# Altium schematic symbol library robby.SchLib: 20 symbols
Pins are listed as number, name and electrical type; pins without a type are passive.

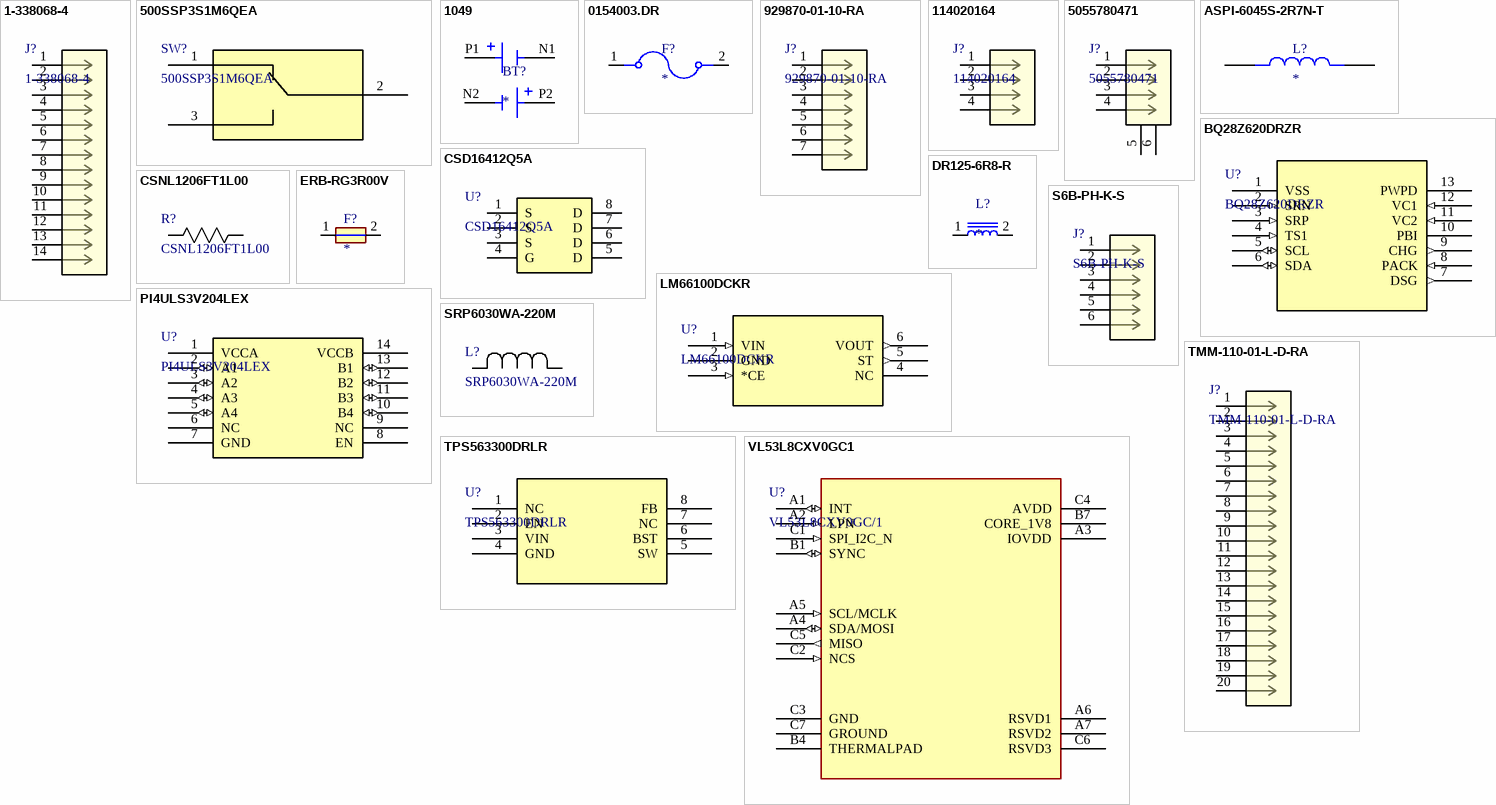
[diagram p0: symbols 1-338068-4 to VL53L8CXV0GC1]

## 1-338068-4
designator J?
MICRO-MATCH FTE,14P; Manufacturer_Name: TE Connectivity; Copyright: Copyright (C) 2025 Ultra Librarian. All rights reserved.; Manufacturer_Part_Number: 1-338068-4; Datasheet: https://www.te.com/commerce/DocumentDelivery/DDEController?Action=srchrtrv&DocNm=4-1773457-1_050_Micro_MaTch&DocType=Data+Sheet&DocLang=English&PartCntxt=1-338068-4&DocFormat=pdf; RefDes: RefDes; Type: Type; Supplier 1: DigiKey; Supplier Part Number 1: A99502CT-ND; Supplier 2: DigiKey; Supplier Part Number 2: A99502TR-ND; Supplier 3: Mouser; Supplier Part Number 3: 571-1-338068-4
footprint CONN_1-338068-4_TYC
pins: 1, 2, 3, 4, 5, 6, 7, 8, 9, 10, 11, 12, 13, 14

## 500SSP3S1M6QEA
designator SW?
No Description Available; Manufacturer_Name: E-Switch; Copyright: Copyright (C) 2025 Ultra Librarian. All rights reserved.; Manufacturer_Part_Number: 500SSP3S1M6QEA; RefDes: RefDes; Type: Type; Supplier 1: DigiKey; Supplier Part Number 1: 500SSP3S1M6QEA-ND; Supplier 2: Mouser; Supplier Part Number 2: 612-500SSP3S1M6QEA
footprint SW3_500SSP3S1M6QEA_EWI
pins: 1, 2, 3

## 1049
designator BT?
THM Holder for Dual 18650 Batteries; MF: Keystone Electronics; MP: 1049; SnapEDA_Link: https://www.snapeda.com/parts/1049/Keystone/view-part/?ref=snap; Package: None; Value: *; Check_prices: https://www.snapeda.com/parts/1049/Keystone/view-part/?ref=eda; Supplier 1: DigiKey; Supplier Part Number 1: 36-1049-ND; Supplier 2: Mouser; Supplier Part Number 2: 534-1049
footprint BAT1049
pins: N1 NEG1, N2 NEG2, P1 POS1, P2 POS2

## 0154003.DR
designator F?
Nano2 SMD FF submin fuse w/holder, 3A | Littelfuse 0154003.DR; MF: Littelfuse Inc.; SnapEDA_Link: https://www.snapeda.com/parts/0154003.DR/Littelfuse/view-part/?ref=snap; Package: SMD-2 Littelfuse; Value: *; MP: 0154003.DR; Check_prices: https://www.snapeda.com/parts/0154003.DR/Littelfuse/view-part/?ref=eda; Supplier 1: DigiKey; Supplier Part Number 1: F1226CT-ND; Supplier 2: DigiKey; Supplier Part Number 2: F1226DKR-ND; Supplier 3: Mouser; Supplier Part Number 3: 576-0154003.DR
footprint FUSE_0154003.DR
pins: 1, 2

## 929870-01-10-RA
designator J?
No Description Available; Manufacturer_Name: 3M; Copyright: Copyright (C) 2025 Ultra Librarian. All rights reserved.; Manufacturer_Part_Number: 929870-01-10-RA; RefDes: RefDes; Type: Type; Supplier 1: DigiKey; Supplier Part Number 1: 3M157422-ND; Supplier 2: Mouser; Supplier Part Number 2: 517-929870-01-10-RA
footprint CONN_929870-01-07-RA_3MM
pins: 1, 2, 3, 4, 5, 6, 7

## 114020164
designator J?
No Description Available; Manufacturer_Name: BeagleBoard; Copyright: Copyright (C) 2025 Ultra Librarian. All rights reserved.; Manufacturer_Part_Number: 114020164; RefDes: RefDes; Type: Type; Supplier 1: DigiKey; Supplier Part Number 1: 1597-114020164-ND; Supplier 2: Mouser; Supplier Part Number 2: 713-114020164
footprint CONN4_20164_SEE
pins: 1, 2, 3, 4

## 5055780471
designator J?
2.00mm Pitch, Micro-Lock Plus PCB Header, Single Row, Right-Angle, Surface Mount, Matte Tin Plating, Positive Lock, 4 Circuits, Low-Halogen, Black; Manufacturer_Name: Molex Connector Corporation; Copyright: Copyright (C) 2025 Ultra Librarian. All rights reserved.; Manufacturer_Part_Number: 5055780471; Datasheet: https://www.molex.com/en-us/products/part-detail-pdf/5055780471?display=pdf; RefDes: RefDes; Type: Type; Supplier 1: DigiKey; Supplier Part Number 1: WM17949CT-ND; Supplier 2: DigiKey; Supplier Part Number 2: WM17949DKR-ND; Supplier 3: Mouser; Supplier Part Number 3: 538-505578-0471
footprint CONN_505578_04_MOL
pins: 1, 2, 3, 4, 5, 6

## ASPI-6045S-2R7N-T
designator L?
MP: ASPI-6045S-2R7N-T; Package: None; Price: None; Value: *; Availability: Unavailable; Supplier 1: DigiKey; Supplier Part Number 1: ASPI-6045S-2R7N-TCT-ND; Supplier 2: DigiKey; Supplier Part Number 2: ASPI-6045S-2R7N-TDKR-ND; Supplier 3: DigiKey; Supplier Part Number 3: ASPI-6045S-2R7N-TTR-ND; Supplier 4: Mouser; Supplier Part Number 4: 815-ASPI-6045S-2R7NT
footprint IND_ASPI-6045S-2R7N-T
pins: 1, 2

## BQ28Z620DRZR
designator U?
Battery fuel gauge with integrated protector for 1-series to 2 series packs with 1.2-V I/O 12-SON -40 to 85; Manufacturer_Name: Texas Instruments; Type: Power Management; Copyright: Copyright (C) 2025 Ultra Librarian. All rights reserved.; Manufacturer_Part_Number: BQ28Z620DRZR; RefDes: RefDes; Supplier 1: DigiKey; Supplier Part Number 1: 296-BQ28Z620DRZRCT-ND; Supplier 2: DigiKey; Supplier Part Number 2: 296-BQ28Z620DRZRDKR-ND; Supplier 3: Mouser; Supplier Part Number 3: 595-BQ28Z620DRZR
footprint VSON12_DRZ_TEX
pins: 1 VSS (power), 2 SRN (in), 3 SRP (in), 4 TS1 (in), 5 SCL (io), 6 SDA (io), 7 DSG (out), 8 PACK (in), 9 CHG (out), 10 PBI (power), 11 VC2 (in), 12 VC1 (in), 13 PWPD (power)

## CSD16412Q5A
designator U?
25-V, N channel NexFETâ„¢ power MOSFET, single SON 5 mm x 6 mm, 16 mOhm 8-VSONP -55 to 150; Manufacturer_Name: Texas Instruments; Copyright: Copyright (C) 2025 Ultra Librarian. All rights reserved.; Manufacturer_Part_Number: CSD16412Q5A; Datasheet: https://www.ti.com/lit/gpn/csd16412q5a; RefDes: RefDes; Type: Type; Supplier 1: DigiKey; Supplier Part Number 1: 296-24256-1-ND; Supplier 2: DigiKey; Supplier Part Number 2: 296-24256-6-ND; Supplier 3: Mouser; Supplier Part Number 3: 595-CSD16412Q5A
footprint DQJ8
pins: 1 S, 2 S, 3 S, 4 G, 5 D, 6 D, 7 D, 8 D

## CSNL1206FT1L00
designator R?
Description; Manufacturer_Name: Stackpole International; Copyright: Copyright (C) 2025 Ultra Librarian. All rights reserved.; Manufacturer_Part_Number: CSNL1206FT1L00; Supplier 1: DigiKey; Supplier Part Number 1: CSNL1206FT1L00CT-ND; Supplier 2: DigiKey; Supplier Part Number 2: CSNL1206FT1L00DKR-ND; Supplier 3: DigiKey; Supplier Part Number 3: CSNL1206FT1L00TR-ND; Supplier 4: Mouser; Supplier Part Number 4: 708-CSNL1206FT1L00
footprint STA_CSNL1206_STP
pins: 1, 2

## DR125-6R8-R
designator L?
Inductor Power Shielded Drum Core 3.084u(OCL)H/3.3uH 20% 100KHz Ferrite 9.26A 6.3mOhm DCR T/R; MP: DR125-6R8-R; Package: None; Price: None; Value: *; Availability: Unavailable; Supplier 1: DigiKey; Supplier Part Number 1: 513-1530-1-ND; Supplier 2: DigiKey; Supplier Part Number 2: 513-1530-6-ND; Supplier 3: DigiKey; Supplier Part Number 3: 513-1530-2-ND; Supplier 4: Mouser; Supplier Part Number 4: 704-DR125-6R8-R
footprint INDM1250X1250X600
pins: 1, 2

## ERB-RG3R00V
designator F?
Micro Chip Fuse, Size [LÃ—W] (EIA) (mm): 3.2Ã—1.6 (EIA:1206), Rated Current (A): 3, Internal R [at 25â„ƒ max.] (mâ„¦): 45, Rated Voltage (Open Circuit Voltage) [DC] (V): 32, Interrupting Rating (A): 50, Category Temp. Range (Â°C): -40 to +125; MF: Panasonic; MP: ERB-RG3R00V; Package: 1206 Panasonic Electronic; Price: None; Value: *; Availability: In Stock; Purchase-URL: https://pricing.snapeda.com/search?q=ERB-RG3R00V&ref=eda; Supplier 1: DigiKey; Supplier Part Number 1: P16741CT-ND; Supplier 2: DigiKey; Supplier Part Number 2: P16741DKR-ND; Supplier 3: DigiKey; Supplier Part Number 3: P16741TR-ND; Supplier 4: Mouser; Supplier Part Number 4: 667-ERB-RG3R00V
footprint FUSC3216X75N
pins: 1, 2

## LM66100DCKR
designator U?
1.5-V to 5.5-V, 1.5-A, 0.5-ÂµA IQ ideal diode with integrated FET 6-SC70 -40 to 125; Manufacturer_Name: Texas Instruments; Copyright: Copyright (C) 2025 Ultra Librarian. All rights reserved.; Manufacturer_Part_Number: LM66100DCKR; RefDes: RefDes; Type: Type; Supplier 1: DigiKey; Supplier Part Number 1: 296-53541-1-ND; Supplier 2: DigiKey; Supplier Part Number 2: 296-53541-6-ND; Supplier 3: DigiKey; Supplier Part Number 3: 296-53541-2-ND; Supplier 4: Mouser; Supplier Part Number 4: 595-LM66100DCKR
footprint DCK6_TEX
pins: 1 VIN (in), 2 GND (power), 3 *CE (in), 4 NC, 5 ST (out), 6 VOUT (out)

## PI4ULS3V204LEX
designator U?
Description; Manufacturer_Name: Diodes Inc; Copyright: Copyright (C) 2025 Ultra Librarian. All rights reserved.; Manufacturer_Part_Number: PI4ULS3V204LEX; RefDes: RefDes; Type: Type; Supplier 1: DigiKey; Supplier Part Number 1: 31-PI4ULS3V204LEXCT-ND; Supplier 2: DigiKey; Supplier Part Number 2: 31-PI4ULS3V204LEXDKR-ND; Supplier 3: DigiKey; Supplier Part Number 3: 31-PI4ULS3V204LEXTR-ND; Supplier 4: Mouser; Supplier Part Number 4: 729-PI4ULS3V204LEX
footprint SOIC_3V204LEX_DIO
pins: 1 VCCA (power), 2 A1 (io), 3 A2 (io), 4 A3 (io), 5 A4 (io), 6 NC, 7 GND (power), 8 EN, 9 NC, 10 B4 (io), 11 B3 (io), 12 B2 (io), 13 B1 (io), 14 VCCB (power)

## S6B-PH-K-S
designator J?
Description; Manufacturer_Name: JST; Copyright: Copyright (C) 2025 Ultra Librarian. All rights reserved.; Manufacturer_Part_Number: S6B-PH-K-S; RefDes: RefDes; Type: Type; Supplier 1: Mouser; Supplier Part Number 1: 306-S6B-PH-K-SLFSN; Supplier 2: DigiKey; Supplier Part Number 2: 455-1723-ND
footprint CONN_S6B-PH-K-S_JST
pins: 1, 2, 3, 4, 5, 6

## SRP6030WA-220M
designator L?
No Description Available; Manufacturer_Name: Bourns Electronics; Copyright: Copyright (C) 2025 Ultra Librarian. All rights reserved.; Manufacturer_Part_Number: SRP6030WA-220M; Supplier 1: DigiKey; Supplier Part Number 1: 118-SRP6030WA-220MCT-ND; Supplier 2: DigiKey; Supplier Part Number 2: 118-SRP6030WA-220MDKR-ND; Supplier 3: Mouser; Supplier Part Number 3: 652-SRP6030WA-220M
footprint IND_SRP6030WA_BRN
pins: 1, 2

## TMM-110-01-L-D-RA
designator J?
No Description Available; Manufacturer_Name: Samtec Inc; Copyright: Copyright (C) 2025 Ultra Librarian. All rights reserved.; Manufacturer_Part_Number: TMM-110-01-L-D-RA; RefDes: RefDes; Type: Type; Supplier 1: DigiKey; Supplier Part Number 1: SAM10228-ND; Supplier 2: Mouser; Supplier Part Number 2: 200-TMM11001LDRA
footprint CONN_TMM-110-XX-XX-D-RA_SAI
pins: 1, 2, 3, 4, 5, 6, 7, 8, 9, 10, 11, 12, 13, 14, 15, 16, 17, 18, 19, 20

## TPS563300DRLR
designator U?
3.8-V to 28-V Input, 3-A synchronous buck converter in SOT-583 package 8-SOT-5X3 -40 to 150; Manufacturer_Name: Texas Instruments; Copyright: Copyright (C) 2025 Ultra Librarian. All rights reserved.; Manufacturer_Part_Number: TPS563300DRLR; RefDes: RefDes; Type: Type; Supplier 1: DigiKey; Supplier Part Number 1: 296-TPS563300DRLRCT-ND; Supplier 2: DigiKey; Supplier Part Number 2: 296-TPS563300DRLRDKR-ND; Supplier 3: Mouser; Supplier Part Number 3: 595-TPS563300DRLR
footprint SOT5X3-8_DRL_TEX
pins: 1 NC, 2 EN, 3 VIN (power), 4 GND (power), 5 SW (power), 6 BST (power), 7 NC, 8 FB

## VL53L8CXV0GC1
designator U?, comment VL53L8CXV0GC/1
Low-power high-performance 8x8 multizone Time-of-Flight sensor (ToF); Manufacturer_Name: STMicroelectronics; Copyright: Copyright (C) 2025 Ultra Librarian. All rights reserved.; Manufacturer_Part_Number: VL53L8CXV0GC/1; RefDes: RefDes; Type: Type; Supplier 1: Farnell; Supplier Part Number 1: 4168721; Supplier 2: Farnell; Supplier Part Number 2: 4168721RL; Supplier 3: DigiKey; Supplier Part Number 3: 497-VL53L8CXV0GC/1CT-ND; Supplier 4: DigiKey; Supplier Part Number 4: 497-VL53L8CXV0GC/1DKR-ND; Supplier 5: DigiKey; Supplier Part Number 5: 497-VL53L8CXV0GC/1TR-ND; Supplier 6: Mouser; Supplier Part Number 6: 511-VL53L8CXV0GC/1
footprint IC17_LGA16_STM
pins: A1 INT (io), A2 LPN (in), A3 IOVDD (power), A4 SDA/MOSI (io), A5 SCL/MCLK (in), A6 RSVD1, A7 RSVD2, B1 SYNC (io), B4 THERMALPAD (power), B7 CORE_1V8 (power), C1 SPI_I2C_N (in), C2 NCS (in), C3 GND (power), C4 AVDD (power), C5 MISO (out), C6 RSVD3, C7 GROUND (power)